# Altium footprint library ATK-M750.PcbLib: 1 footprints
Each footprint in its own frame and in the unit in brackets; x right, y up, seen from the top. Pads: shape width x height; smd on the part's side, far side on the other; paste and mask are expansions set on the pad; w line width, h text height; cw(c..) or ccw(c..) is an arc to the next point about the centre after c.
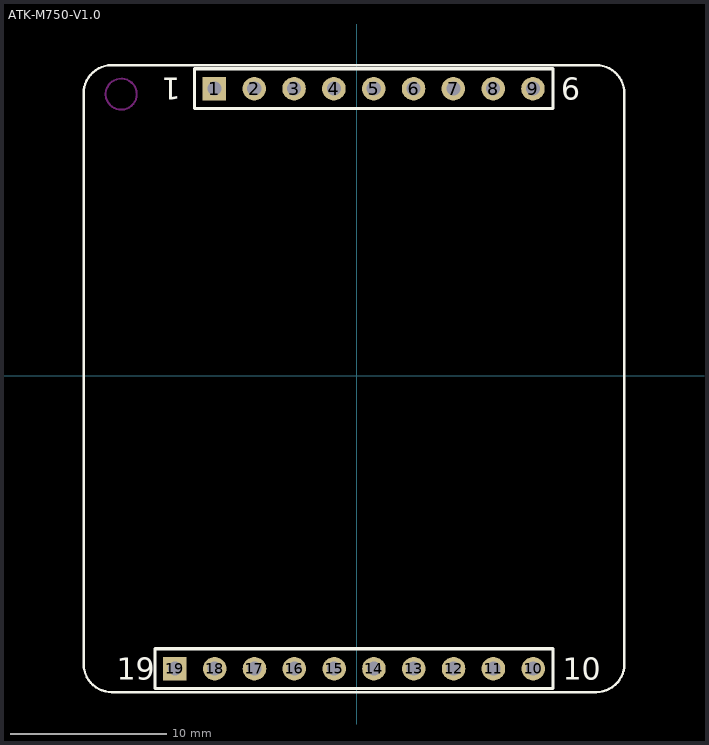
[diagram p0: the footprint, top view; thin cyan lines are the x and y axes]

## ATK-M750-V1.0 [mm] "正点原子ATK-M750(4G DTU)"
pads (19):
  rect 1.5x1.5 hole 0.9: 1(-9.072,18.316) 19(-11.598,-18.684)
  round 1.5 hole 0.9: 2(-6.532,18.316) 3(-3.992,18.316) 4(-1.452,18.316) 5(1.088,18.316) 6(3.628,18.316) 7(6.168,18.316) 8(8.708,18.316) 9(11.248,18.316) 10(11.262,-18.684) 11(8.722,-18.684) 12(6.182,-18.684) 13(3.642,-18.684) 14(1.102,-18.684) 15(-1.438,-18.684) 16(-3.978,-18.684) 17(-6.518,-18.684) 18(-9.058,-18.684)
Top Overlay:
  lines w0.15: -17.42,18.011 cw(c-15.616,18.012) -15.62,19.816 ; -17.42,18.023 -17.42,-18.384 ccw(c-15.616,-18.38) -15.616,-20.184 15.279,-20.184 ccw(c15.275,-18.38) 17.079,-18.379 17.079,18.016 ccw(c15.275,18.012) 15.275,19.816 -15.632,19.816
  lines w0.2: -12.868,-19.954 -12.868,-17.414 -10.963,-17.414 12.527,-17.414 12.527,-19.954 -12.868,-19.954 ; -10.342,17.046 -10.342,19.586 -8.437,19.586 12.528,19.586 12.528,17.046 -10.342,17.046
  text "10" at 13.155,-19.382 h1.4
  text "19" at -15.32,-19.382 h1.4
  text "9" at 14.247,19.014 h1.4
  text "1" at -11.228,19.014 h1.4
Keep-Out Layer:
  circle w0.127: c-15.02,17.966 r0.991
3D body "LTE_DTU_Core_V1.21.step": height 14, standoff 2.46, extent -17.435,-20.181 17.077,19.819
3D body "User Library-ZL262-2SG.STEP": height 8.4, standoff -3.15, extent -12.87,-19.934 -7.79,-17.434
3D body "User Library-ZL262-2SG.STEP": height 8.4, standoff -3.15, extent -7.79,-19.934 -2.71,-17.434
3D body "User Library-ZL262-2SG.STEP": height 8.4, standoff -3.15, extent -2.71,-19.934 2.37,-17.434
3D body "User Library-ZL262-2SG.STEP": height 8.4, standoff -3.15, extent 2.37,-19.934 7.45,-17.434
3D body "User Library-ZL262-2SG.STEP": height 8.4, standoff -3.15, extent 7.449,-19.934 12.53,-17.434
3D body "User Library-ZL262-2SG.STEP": height 8.4, standoff -3.15, extent -10.345,17.066 -5.265,19.566
3D body "User Library-ZL262-2SG.STEP": height 8.4, standoff -3.15, extent -5.265,17.066 -0.185,19.566
3D body "User Library-ZL262-2SG.STEP": height 8.4, standoff -3.15, extent -0.185,17.066 4.895,19.566
3D body "User Library-ZL262-2SG.STEP": height 8.4, standoff -3.15, extent 4.895,17.066 9.975,19.566
3D body "User Library-ZL262-2SG.STEP": height 8.4, standoff -3.15, extent 7.45,17.066 12.53,19.566